# Altium footprint library конденсаторы подстроичные.PcbLib: 1 footprints
Each footprint in its own frame and in the unit in brackets; x right, y up, seen from the top. Pads: shape width x height; smd on the part's side, far side on the other; paste and mask are expansions set on the pad; w line width, h text height; cw(c..) or ccw(c..) is an arc to the next point about the centre after c.
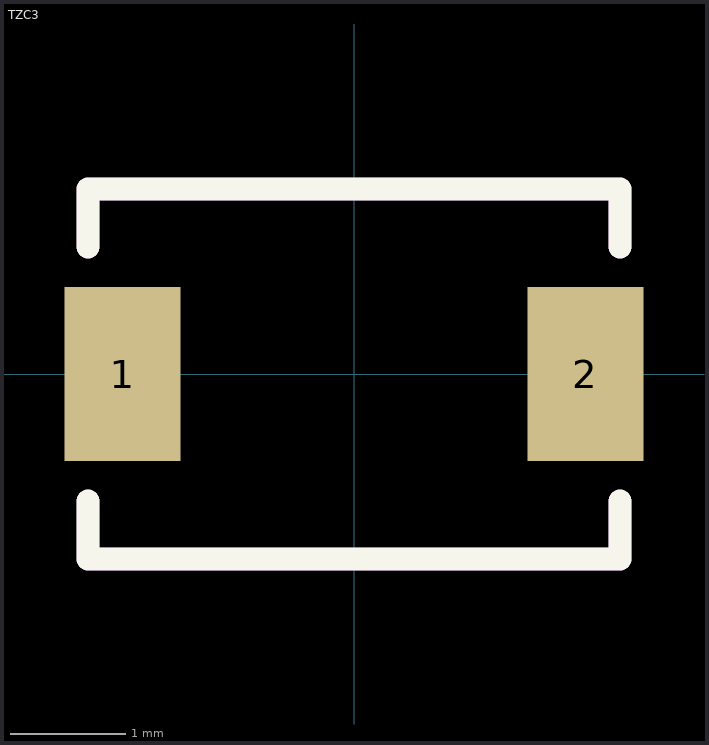
[diagram p0: the footprint, top view; thin cyan lines are the x and y axes]

## TZC3 [mm]
pads (2):
  rect 1x1.5 smd: 1(-2,0) 2(2,0)
Top Overlay:
  lines w0.2: -2.3,-1.1 -2.3,-1.6 2.3,-1.6 2.3,-1.1 ; -2.3,1.1 -2.3,1.6 2.3,1.6 2.3,1.1
ASSEMBLY_TOP:
  lines w0.2: -2.3,-1.1 -2.3,-1.6 2.3,-1.6 2.3,-1.1 ; -2.3,1.1 -2.3,1.6 2.3,1.6 2.3,1.1
  text ".Designator" at -1,-0.5 h1.52
3D body "TZC3P200A110R00.STEP": height 1.6, standoff 0, extent -2.25,-1.6 2.25,1.6